# Altium integrated library Intersil Amplifier Buffer.IntLib: 1 symbol
Pins are listed as number, name and electrical type; pins without a type are passive.

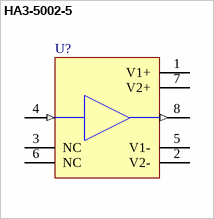
[diagram p0: symbol HA3-5002-5]

## HA3-5002-5
designator U?
110 MHz, High Slew Rate, High Output Current, Buffer Amplifier; Published: 26-May-2004; LatestRevisionDate: 29-May-2009; LatestRevisionNote: Component Body Added.; DatasheetVersion: Jul-2003; PackageVersion: rev0, Dec-1993; PackageReference: E8.3; Publisher: Altium Limited; PackageDescription: DIP, Plastic, 8-Pin, Row Spacing 7.62 mm, Pitch 2.54 mm; Code_JEDEC: MS-001-BA; ComponentLink1Description: Manufacturer Link; ComponentLink1URL: http://www.intersil.com/cda/home/; ComponentLink2Description: Datasheet; ComponentLink2URL: http://www.intersil.com/data/fn/fn2921.pdf
footprint E8.3 (DIP, 8-Leads, Row Spacing 7.62mm, Pitch 2.54mm, Body 9.59x6.6mm)
3D model E8_3 (DIP, Plastic, 8-Pin, Row Spacing 7.62 mm, Pitch 2.54 mm)
pins: 1 V1+ (power), 2 V2- (power), 3 NC, 4 IN (in), 5 V1- (power), 6 NC, 7 V2+ (power), 8 OUT (out)